# EAGLE library part LTC3704 (library PowerProducts)
Wide Input Range, No RSENSE Positive-to-Negative DC/DC Controller
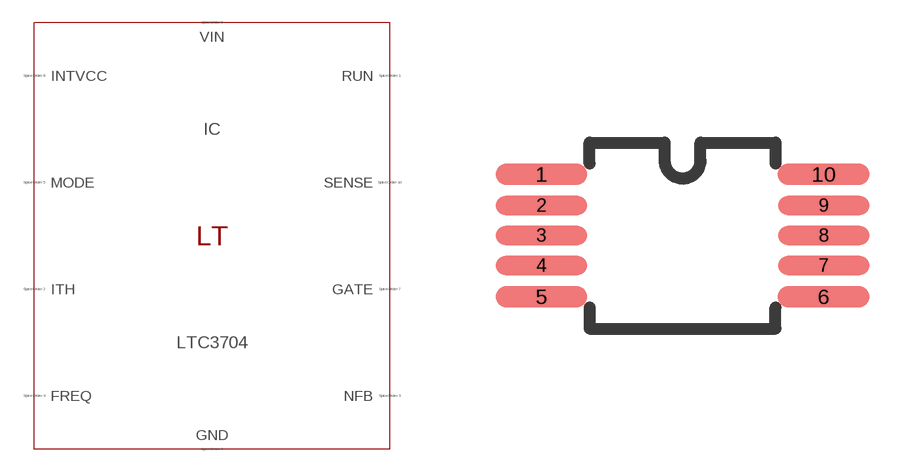
[diagram p283: symbol with the pads of MSOP10(MS); footprint MSOP10(MS)]

Designator prefix IC

## LTC3704 (SPICEMODEL: LTC3704.sub; SPICEPREFIX: X; VALUE2: LTC3704)  [MSOP10(MS)]
1  RUN  pas
2  ITH  pas
3  NFB  pas
4  FREQ  pas
5  MODE  pas
6  GND  pas
7  GATE  pas
8  INTVCC  pas
9  VIN  pas
10  SENSE  pas

## Footprint MSOP10(MS) (pad centres in mm)
Package generated from: MSOP10(MS).asc (!PADS-POWERPCB-V5.0-BASIC! DESIGN DATABASE ASCII FILE 1.0) with :import-pads-powerpcb-v5.ulp Version 1.0.1 at 04.10.2012 14:11:19
smd 2.295 x 0.54: 1 -3.529,1.53; 5 -3.529,-1.53; 6 3.529,-1.53; 10 3.529,1.53
smd 2.295 x 0.48: 2 -3.529,0.75; 3 -3.529,0; 4 -3.529,-0.75; 7 3.529,-0.75; 8 3.529,0; 9 3.529,0.75